# Altium footprint library Chip_Capacitor_M.PcbLib: 24 footprints (part 2 of 2)
Each footprint in its own frame and in the unit in brackets; x right, y up, seen from the top. Pads: shape width x height; smd on the part's side, far side on the other; paste and mask are expansions set on the pad; w line width, h text height; cw(c..) or ccw(c..) is an arc to the next point about the centre after c.
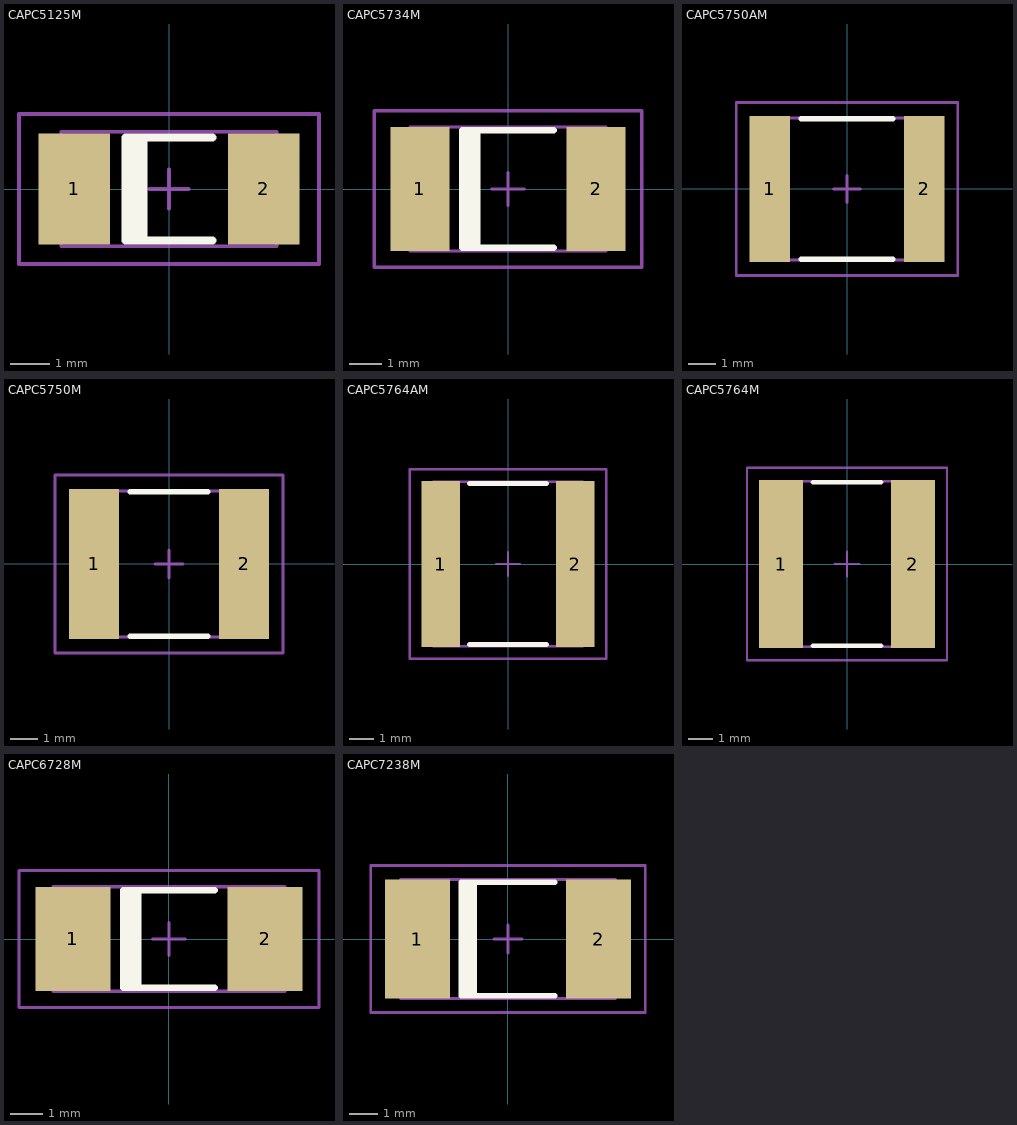
[diagram p1: the footprints below, top view; thin cyan lines are the x and y axes]

## CAPC5125M [mm] "Chip Capacitor, Body 5.08x2.54mm, IPC Low Density"
height 1.66
pads (2):
  rect 1.8x2.8 smd: 1(-2.4,0) 2(2.4,0)
Top Overlay:
  rectangle: -1.1,-1.3 -0.55,1.3
  lines w0.2: 1.1,-1.3 -1.1,-1.3 -1.1,1.3 1.1,1.3
Mechanical 13:
  lines w0.1: -2.73,-1.45 2.73,-1.45 2.73,1.45 -2.73,1.45 -2.73,-1.45
Mechanical 15:
  lines w0.1: -0.5,0 0.5,0 ; 0,-0.5 0,0.5 ; -3.8,-1.9 3.8,-1.9 3.8,1.9 -3.8,1.9 -3.8,-1.9
3D body: height 1.66, standoff 0, extent -2.73,-1.45 2.73,1.45

## CAPC5734M [mm] "Chip Capacitor, Body 5.7x3.4mm, IPC Low Density"
height 2.16
pads (2):
  rect 1.8x3.8 smd: 1(-2.7,0) 2(2.7,0)
Top Overlay:
  rectangle: -1.4,-1.8 -0.85,1.8
  lines w0.2: 1.4,-1.8 -1.4,-1.8 -1.4,1.8 1.4,1.8
Mechanical 13:
  lines w0.1: -3,-1.9 3,-1.9 3,1.9 -3,1.9 -3,-1.9
Mechanical 15:
  lines w0.1: -0.5,0 0.5,0 ; 0,-0.5 0,0.5 ; -4.1,-2.4 4.1,-2.4 4.1,2.4 -4.1,2.4 -4.1,-2.4
3D body: height 2.16, standoff 0, extent -3,-1.9 3,1.9

## CAPC5750AM [mm] "Chip Capacitor, Body 5.7x5.0mm, IPC Low Density"
height 1.8
pads (2):
  rect 1.5x5.4 smd: 1(-2.85,0) 2(2.85,0)
Top Overlay:
  lines w0.2: -1.7,-2.6 1.7,-2.6 ; -1.7,2.6 1.7,2.6
Mechanical 13:
  lines w0.1: -2.95,-2.625 2.95,-2.625 2.95,2.625 -2.95,2.625 -2.95,-2.625
Mechanical 15:
  lines w0.1: -0.5,0 0.5,0 ; 0,-0.5 0,0.5 ; -4.1,-3.2 4.1,-3.2 4.1,3.2 -4.1,3.2 -4.1,-3.2
3D body: height 1.8, standoff 0, extent -2.95,-2.625 2.95,2.625

## CAPC5750M [mm] "Chip Capacitor, Body 5.7x5.0mm, IPC Low Density"
height 1.35
pads (2):
  rect 1.8x5.4 smd: 1(-2.7,0) 2(2.7,0)
Top Overlay:
  lines w0.2: -1.4,-2.6 1.4,-2.6 ; -1.4,2.6 1.4,2.6
Mechanical 13:
  lines w0.1: -2.95,-2.625 2.95,-2.625 2.95,2.625 -2.95,2.625 -2.95,-2.625
Mechanical 15:
  lines w0.1: -0.5,0 0.5,0 ; 0,-0.5 0,0.5 ; -4.1,-3.2 4.1,-3.2 4.1,3.2 -4.1,3.2 -4.1,-3.2
3D body: height 1.35, standoff 0, extent -2.95,-2.625 2.95,2.625

## CAPC5764AM [mm] "Chip Capacitor, Body 5.7x6.4mm, IPC Low Density"
height 2.03
pads (2):
  rect 1.6x6.9 smd: 1(-2.8,0) 2(2.8,0)
Top Overlay:
  lines w0.2: -1.6,-3.35 1.6,-3.35 ; -1.6,3.35 1.6,3.35
Mechanical 13:
  lines w0.1: -3.115,-3.43 -3.115,3.43 3.115,3.43 3.115,-3.43 -3.115,-3.43
Mechanical 15:
  lines w0.1: -0.5,0 0.5,0 ; 0,-0.5 0,0.5 ; -4.1,-3.95 -4.1,3.95 4.1,3.95 4.1,-3.95 -4.1,-3.95
3D body: height 2.03, standoff 0, extent -3.115,-3.43 3.115,3.43

## CAPC5764M [mm] "Chip Capacitor, Body 5.7x6.4mm, IPC Low Density"
height 2
pads (2):
  rect 1.8x6.9 smd: 1(-2.7,0) 2(2.7,0)
Top Overlay:
  lines w0.2: -1.4,-3.35 1.4,-3.35 ; -1.4,3.35 1.4,3.35
Mechanical 13:
  lines w0.1: -2.95,-3.4 2.95,-3.4 2.95,3.4 -2.95,3.4 -2.95,-3.4
Mechanical 15:
  lines w0.1: -0.5,0 0.5,0 ; 0,-0.5 0,0.5 ; -4.1,-3.95 4.1,-3.95 4.1,3.95 -4.1,3.95 -4.1,-3.95
3D body: height 2, standoff 0, extent -2.95,-3.4 2.95,3.4

## CAPC6728M [mm] "Chip Capacitor, Body 6.7x2.8mm, IPC Low Density"
height 3.18
pads (2):
  rect 2.3x3.2 smd: 1(-2.95,0) 2(2.95,0)
Top Overlay:
  rectangle: -1.4,-1.5 -0.85,1.5
  lines w0.2: 1.4,-1.5 -1.4,-1.5 -1.4,1.5 1.4,1.5
Mechanical 13:
  lines w0.1: -3.55,-1.6 3.55,-1.6 3.55,1.6 -3.55,1.6 -3.55,-1.6
Mechanical 15:
  lines w0.1: -0.5,0 0.5,0 ; 0,-0.5 0,0.5 ; -4.6,-2.1 4.6,-2.1 4.6,2.1 -4.6,2.1 -4.6,-2.1
3D body: height 3.18, standoff 0, extent -3.55,-1.6 3.55,1.6

## CAPC7238M [mm] "Chip Capacitor, Body 7.2x3.8mm, IPC Low Density"
height 3.18
pads (2):
  rect 2.3x4.2 smd: 1(-3.2,0) 2(3.2,0)
Top Overlay:
  rectangle: -1.65,-2 -1.1,2
  lines w0.2: 1.65,-2 -1.65,-2 -1.65,2 1.65,2
Mechanical 13:
  lines w0.1: -3.8,-2.1 3.8,-2.1 3.8,2.1 -3.8,2.1 -3.8,-2.1
Mechanical 15:
  lines w0.1: -0.5,0 0.5,0 ; 0,-0.5 0,0.5 ; -4.85,-2.6 4.85,-2.6 4.85,2.6 -4.85,2.6 -4.85,-2.6
3D body: height 3.18, standoff 0, extent -3.8,-2.1 3.8,2.1